# Altium schematic symbol library SamacSys.SchLib: 241 symbols (part 3 of 3)
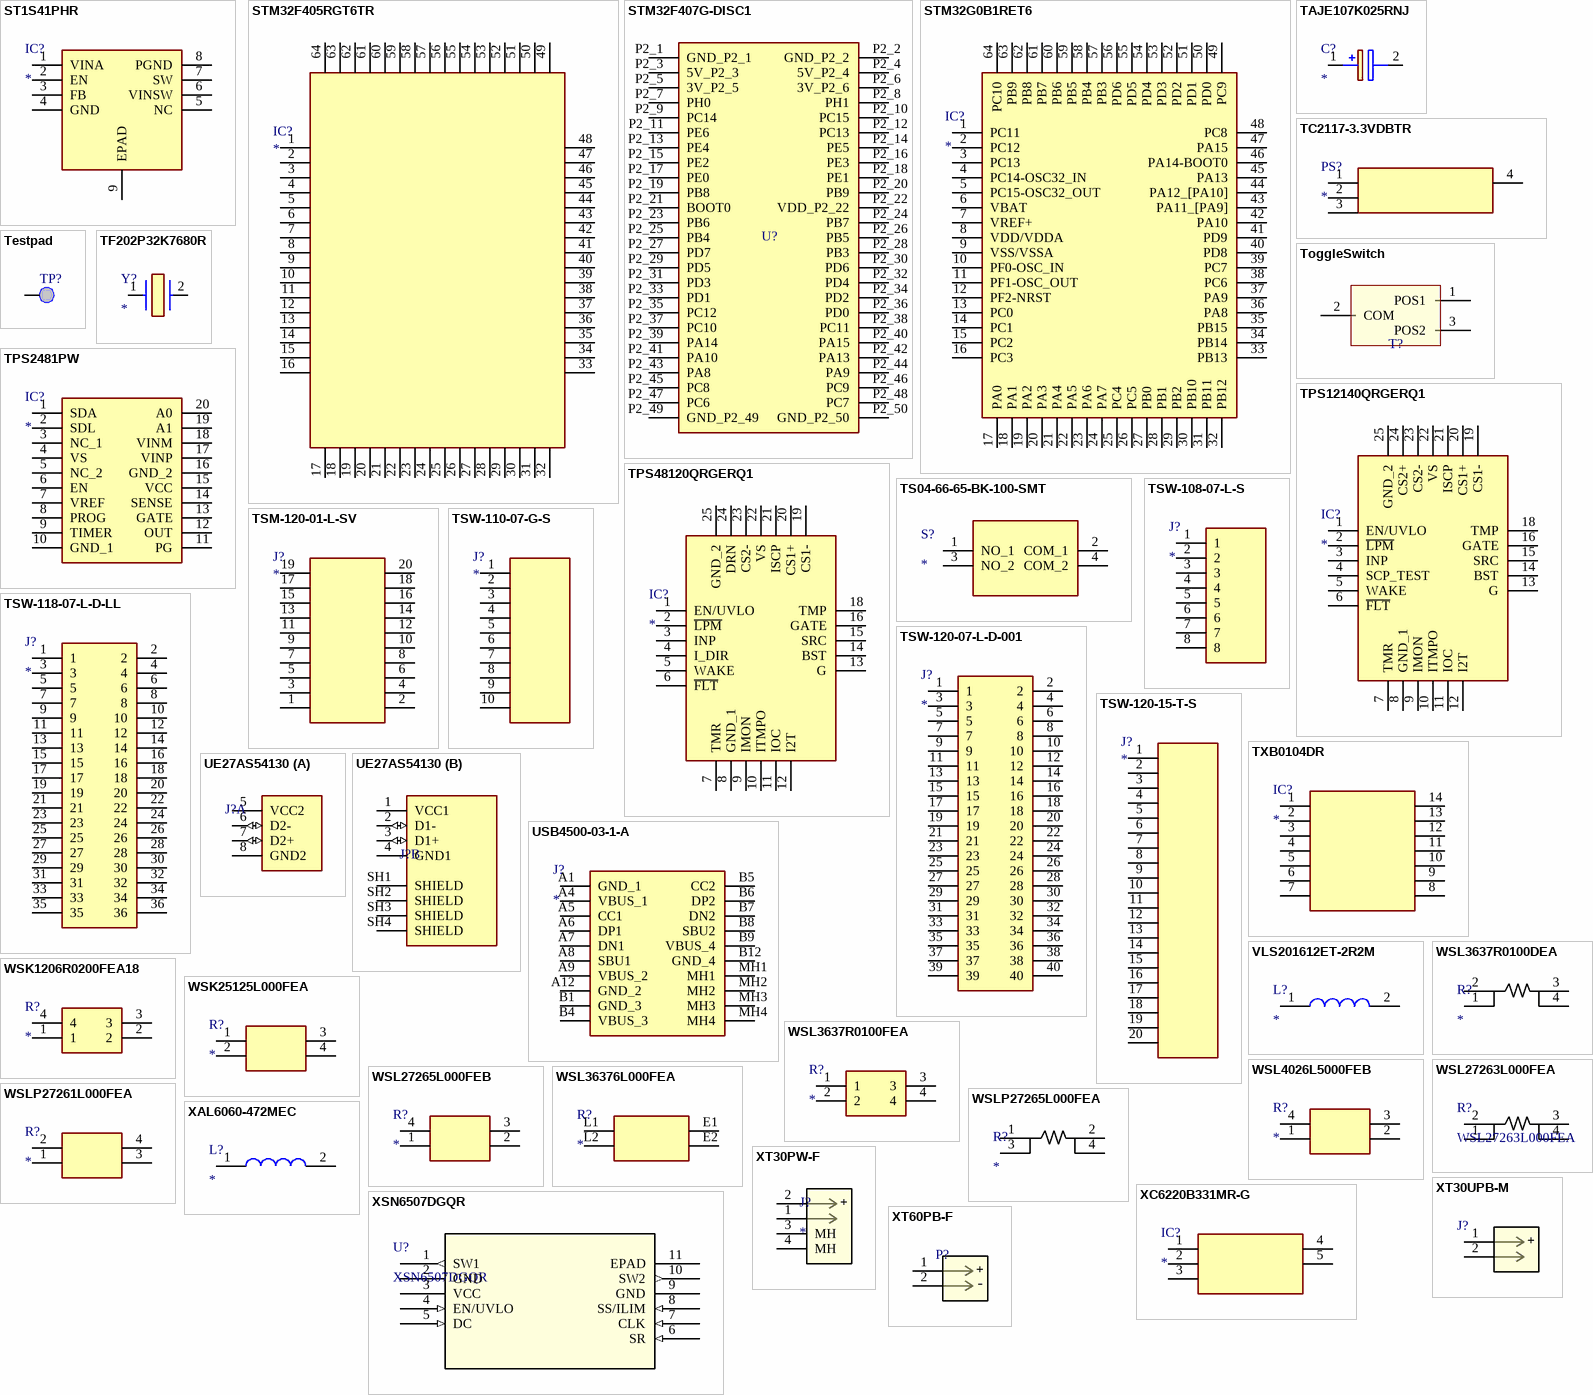
[diagram p8: symbols ST1S41PHR to XT60PB-F]

## WSL36376L000FEA
designator R?
Resistor; Manufacturer_Name: Vishay; Manufacturer_Part_Number: WSL36376L000FEA; Datasheet Link: http://www.vishay.com/docs/30099/wsl3637.pdf; Height: 0.889mm; Mouser Part Number: 71-WSL36376L000FEA; Mouser Price/Stock: https://www.mouser.co.uk/ProductDetail/Vishay-Dale/WSL36376L000FEA?qs=Dk6UgDv3OKjk9WvbLCKtSA%3D%3D; Arrow Part Number: WSL36376L000FEA; Arrow Price/Stock: https://www.arrow.com/en/products/wsl36376l000fea/vishay
footprint WSL36376L000FEA
pins: E1, E2, L1, L2

## WSLP27261L000FEA
designator R?
Resistor; Manufacturer_Name: Vishay; Manufacturer_Part_Number: WSLP27261L000FEA; Datasheet Link: http://www.vishay.com/docs/30179/wslp2726.pdf; Mouser Part Number: 71-WSLP27261L000FEA; Mouser Price/Stock: https://www.mouser.co.uk/ProductDetail/Vishay-Dale/WSLP27261L000FEA?qs=H%252BW4FWGGyHcxqFU1TLZ1EQ%3D%3D; Arrow Part Number: WSLP27261L000FEA; Arrow Price/Stock: https://www.arrow.com/en/products/wslp27261l000fea/vishay?region=nac
footprint WSLP2726
pins: 1, 2, 3, 4

## WSLP27265L000FEA
designator R?
5mohm current sense Resistor 5W; Manufacturer_Name: Vishay; Manufacturer_Part_Number: WSLP27265L000FEA; Datasheet Link: https://componentsearchengine.com/Datasheets/1/WSLP27265L000FEA.pdf; Height: 2.81mm; Mouser Part Number: 71-WSLP27265L000FEA; Mouser Price/Stock: https://www.mouser.co.uk/ProductDetail/Vishay-Dale/WSLP27265L000FEA?qs=h6V4JsTaLXeHJBxiH6kbIg%3D%3D
footprint WSLP27265L000FEA
pins: 1, 2, 3, 4

## XAL6060-472MEC
designator L?
Inductor; Manufacturer_Name: COILCRAFT; Manufacturer_Part_Number: XAL6060-472MEC; Datasheet Link: https://componentsearchengine.com/Datasheets/2/XAL6060-472MEC.pdf; Height: 6.1mm; Mouser Part Number: 994-XAL6060-472MEC; Mouser Price/Stock: https://www.mouser.co.uk/ProductDetail/Coilcraft/XAL6060-472MEC?qs=zCSbvcPd3pajUkm1Owi1LA%3D%3D
footprint XAL6060472MEC
pins: 1, 2

## XC6220B331MR-G
designator IC?
Integrated Circuit; Manufacturer_Name: Torex; Manufacturer_Part_Number: XC6220B331MR-G; Datasheet Link: https://media.digikey.com/pdf/Data%20Sheets/Torex/XC6220.pdf; Height: 1.2mm; Mouser Part Number: 865-XC6220B331MR-G; Mouser Price/Stock: https://www.mouser.com/Search/Refine.aspx?Keyword=865-XC6220B331MR-G
footprint SOT95P280X120-5N
pins: 1 VIN, 2 VSS, 3 CE, 4 NC, 5 VOUT

## XSN6507DGQR
designator U?
Low-emission 36-V push-pull transformer driver with duty cycle control for isolated power supplies 10-HVSSOP -55 to 125; Manufacturer_Name: Texas Instruments; Copyright: Copyright (C) 2025 Ultra Librarian. All rights reserved.; Manufacturer_Part_Number: XSN6507DGQR; RefDes: RefDes; Type: Type
footprint POWERPAD10_DGQ_TEX-L
pins: 1 SW1 (out), 2 GND (power), 3 VCC (power), 4 EN/UVLO (in), 5 DC (in), 6 SR (in), 7 CLK (in), 8 SS/ILIM (in), 9 GND (power), 10 SW2 (out), 11 EPAD (power)

## XT30PW-F
designator J?
Connector; Manufacturer_Name: Amass; Manufacturer_Part_Number: XT30PW-F; Datasheet Link: https://www.tme.eu/Document/ce4077e36b79046da520ca73227e15de/XT30PW%20SPEC.pdf; Height: 5mm
footprint XT30PWF
pins: 1, 2, 3 MH, 4 MH
text: +

## XT30UPB-M
designator J?  (value not drawn)
XT30-AW
footprint XT30UPB-M (XT30 connector)
pins: 1, 2
text: +

## XT60PB-F
designator P?  (value not drawn)
Amass Connector Female
footprint XT60PB-F (Amass Connector XT60 Female)
pins: 1, 2
text: +; -

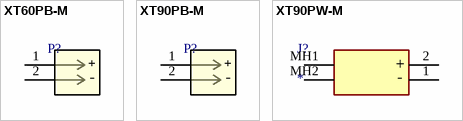
[diagram p6: symbols XT60PB-M to XT90PW-M]

## XT60PB-M
designator P?  (value not drawn)
Amass Connector
footprint XT60PB-M (Amass Connector XT60 Male)
pins: 1, 2
text: +; -

## XT90PB-M
designator P?  (value not drawn)
Amass Connector XT90 Male
footprint XT90PB-M (XT90PB Male)
pins: 1, 2
text: +; -

## XT90PW-M
designator J?
Connector; Manufacturer_Name: Amass; Manufacturer_Part_Number: XT90PW-M; Datasheet Link: https://www.tme.com/Document/7357a049cc8e5ea73e34d2124a313a81/XT90PW.pdf; Height: 10.3mm
footprint XT90PWM
pins: 1, 2, MH1, MH2
text: +; -